# Altium schematic symbol library Sonar_Schlib1.SchLib: 14 symbols
Pins are listed as number, name and electrical type; pins without a type are passive.

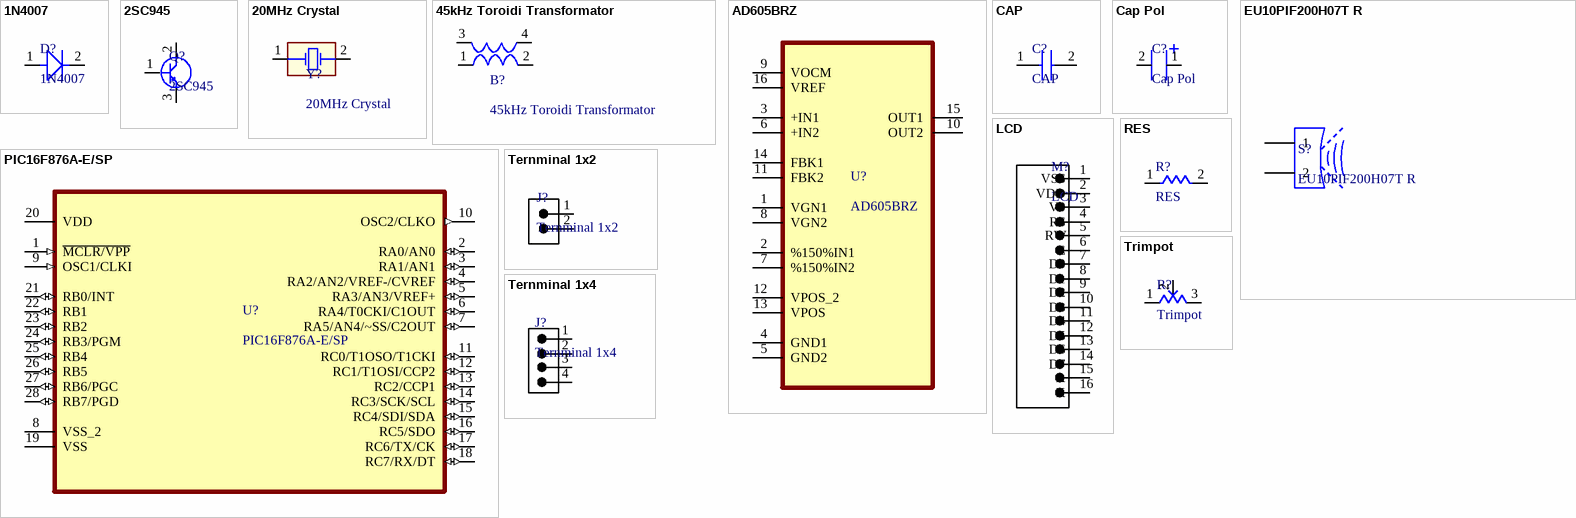
[diagram p0: symbols 1N4007 to Trimpot]

## 1N4007
designator D?
1N4007 Diyot - MIC; ComponentLink1Description: Satın Alma Linki; ComponentLink1URL: https://www.direnc.net/1n4007-diyot-mic?language=tr&h=be9c89b5; ComponentLink2Description: Datasheet; ComponentLink2URL: https://pdf.direnc.net/upload/1n4007-mic-datasheet.pdf
footprint Diode
pins: 1, 2

## 2SC945
designator Q?
2SC945 Npn Tht Transistör To-92; ComponentLink1Description: Satın Alma Linki; ComponentLink1URL: https://www.direnc.net/2sc945-npn-transistor-to-92; ComponentLink2Description: Datasheet; ComponentLink2URL: https://pdf.direnc.net/upload/2sc945-datasheet.pdf
footprint 2SC945
pins: 1 (power) "Regulator Input Supply. Bypass IN to GND with a 1 uF or greater capacitor.", 2 (power) "Ground.", 3 (power) "Ground."

## 20MHz Crystal
designator Y?
20.000 MHz Kristal HC-49S; ComponentLink1Description: Satın Alma Linki; ComponentLink1URL: https://www.direnc.net/20000mhz-kristal-hc-49s; ComponentLink2Description: Datasheet; ComponentLink2URL: https://pdf.direnc.net/upload/hc-49s-datasheet.pdf
footprint Crystal
pins: 1 (power) "Regulator Input Supply. Bypass IN to GND with a 1 uF or greater capacitor.", 2 (power) "Ground."

## 45kHz Toroidi Transformator
designator B?
Toroidi Transformator; ComponentLink1Description: Satın Alma Linki; ComponentLink2Description: Datasheet
footprint Toroidi Transformator
pins: 1 (power) "Regulator Input Supply. Bypass IN to GND with a 1 uF or greater capacitor.", 2 (power) "Ground.", 3 (power) "Regulator Input Supply. Bypass IN to GND with a 1 uF or greater capacitor.", 4 (power) "Regulator Input Supply. Bypass IN to GND with a 1 uF or greater capacitor."

## AD605BRZ
designator U?
SP Amp Variable Gain Amp Dual 5.5V 16-Pin SOIC N Tube; MF: Analog Devices; Check_prices: https://www.snapeda.com/parts/AD605BRZ/Analog+Devices+Inc./view-part/?ref=eda; Purchase-URL: https://pricing.snapeda.com/search/part/AD605BRZ/?ref=eda; Value: *; MP: AD605BRZ; SnapEDA_Link: https://www.snapeda.com/parts/AD605BRZ/Analog+Devices+Inc./view-part/?ref=snap; Availability: In Stock; Price: None; Package: SOIC-16 Analog Devices; ComponentLink1Description: Satın Alma Linki; ComponentLink1URL: https://karakoyelektronik.com/entegre-opamp/ad605arz-ad605-soic-16-smd-entegre-73227; ComponentLink2Description: Datasheet; ComponentLink2URL: https://www.analog.com/media/en/technical-documentation/data-sheets/ad605.pdf
footprint SOIC127P600X175-16N
pins: 1 VGN1, 2 %150%IN1, 3 +IN1, 4 GND1, 5 GND2, 6 +IN2, 7 %150%IN2, 8 VGN2, 9 VOCM, 10 OUT2, 11 FBK2, 12 VPOS_2 (power), 13 VPOS (power), 14 FBK1, 15 OUT1, 16 VREF

## CAP
designator C?
Capacitor; ComponentLink1Description: Satın Alma Linki; ComponentLink1URL: https://www.gittigidiyor.com/bilgisayar-tablet/10nf-0-01uf-250vac-15mm-polyester-kondansator_pdp_737477069?srsltid=AWLEVJz16SnKX2NDZaIIXPvCbCHJrqrlRK97N02d1jbI8tg-I79--aDE9LQ; ComponentLink2Description: Satın Alma Linki; ComponentLink2URL: https://www.gittigidiyor.com/bilgisayar-tablet/ero-0-1uf-100nf-104-63v-poly-kapasitor-1-adet-fiyatidir_pdp_567908829?srsltid=AWLEVJxjHrN956zYqkQJwJOlEd-L4Xspu9kCsmMCN64mFV4zCJysjyK6NUI; ComponentLink4Description: Satın Alma Linki; ComponentLink4URL: https://www.direnc.net/22-pf-63v-kondansator; ComponentLink5Description: Satın Alma Linki; ComponentLink5URL: https://www.direnc.net/100nf-63v-seramik
footprint CAP
pins: 1, 2

## Cap Pol
designator C?
MZ1V687M12020PH - CAP.EL.680uF 35V 12.5x20 5MM 105C TB SAMWHA; ComponentLink1Description: Satın Alma Linki; ComponentLink1URL: https://www.robotistan.com/50v-47-uf-kondansator?language=tr&h=1c00dcc6&gclid=CjwKCAjw8sCRBhA6EiwA6_IF4VXoQwnzNkJJ9WqRPn2NBUHTJmkaiTyihiBkaYJlX-EbQcFZ5TCuURoCGtoQAvD_BwE
footprint CAP POL
pins: 1, 2

## EU10PIF200H07T R
designator S?
Suya Dayanıklı Ultrasonik Sensör RT Mesafe Ölçüm Probu - 10mm (EU10PIF200H07T R 200Khz); ComponentLink1Description: Satın Alma Linki; ComponentLink1URL: https://www.robotistan.com/suya-dayanikli-ultrasonik-sensor-10mm?language=tr&h=b3c9ab81; ComponentLink2Description: Datasheet; ComponentLink2URL: https://tr.aliexpress.com/item/33039788263.html?spm=a2g0o.productlist.0.0.66bc1f47oNyabD&algo_pvid=28f77d51-3c5b-4650-aee5-95afa2ae2236&algo_exp_id=28f77d51-3c5b-4650-aee5-95afa2ae2236-42&pdp_ext_f=%7B%22sku_id%22%3A%2267411356863%22%7D&pdp_pi=-1%3B17.15%3B-1%3B-1%40salePrice%3BTRY%3Bsearch-mainSearch
footprint EU10PIF200H07T R
pins: 1, 2

## LCD
designator M?
2x16 LCD Ekran Sol Üst Mavi - Qapass; ComponentLink1Description: Satın Alma Linki; ComponentLink1URL: https://www.direnc.net/2x16-lcd-display-sol-ust-mavi-qapass
footprint LCD
pins: 1 VSS, 2 VDD, 3 V0, 4 RS, 5 RW, 6 E, 7 D0, 8 D1, 9 D2, 10 D3, 11 D4, 12 D5, 13 D6, 14 D7, 15 A, 16 K

## PIC16F876A-E/SP
designator U?
PIC PICÂ® 16F Microcontroller IC 8-Bit 20MHz 14KB _8K x 14_ FLASH 28-SPDIP; MF: Microchip; Price: None; SnapEDA_Link: https://www.snapeda.com/parts/PIC16F876A-E/SP/Microchip/view-part/39708/?ref=snap; MP: PIC16F876A-E/SP; Availability: Unavailable; Value: *; Package: SPDIP-28 Microchip
footprint DIP787W46P254L3467H508Q28
pins: 1 ~{MCLR/VPP} (in), 2 RA0/AN0 (io), 3 RA1/AN1 (io), 4 RA2/AN2/VREF-/CVREF (io), 5 RA3/AN3/VREF+ (io), 6 RA4/T0CKI/C1OUT (io), 7 RA5/AN4/~SS/C2OUT (io), 8 VSS_2 (power), 9 OSC1/CLKI (in), 10 OSC2/CLKO (out), 11 RC0/T1OSO/T1CKI (io), 12 RC1/T1OSI/CCP2 (io), 13 RC2/CCP1 (io), 14 RC3/SCK/SCL (io), 15 RC4/SDI/SDA (io), 16 RC5/SDO (io), 17 RC6/TX/CK (io), 18 RC7/RX/DT (io), 19 VSS (power), 20 VDD (power), 21 RB0/INT (io), 22 RB1 (io), 23 RB2 (io), 24 RB3/PGM (io), 25 RB4 (io), 26 RB5 (io), 27 RB6/PGC (io), 28 RB7/PGD (io)

## RES
designator R?
THT RES; ComponentLink1Description: Satın Alma Linki; ComponentLink1URL: https://www.direnc.net/100k-14w-direnc; ComponentLink2Description: Satın Alma Linki; ComponentLink2URL: https://www.direnc.net/10k-14w-direnc; ComponentLink3Description: Satın Alma Linki; ComponentLink3URL: https://www.direnc.net/330r-14w-direnc; ComponentLink4Description: Satın Alma Linki; ComponentLink4URL: https://www.robotistan.com/14w-4r7-direnc-paketi-10-adet?language=tr&h=271ea605&gclid=CjwKCAjw8sCRBhA6EiwA6_IF4UdnwIE7RSG51h9FyPU_nDREhgEzyNY-sIZCkwosdMCcC2JaoAPoUhoCuUsQAvD_BwE
footprint Res
pins: 1, 2

## Ternminal 1x2
designator J?
ComponentLink1Description: Satın Alma Linki; ComponentLink2Description: Datasheet
footprint Terminal 1x2
pins: 1, 2

## Ternminal 1x4
designator J?
ComponentLink1Description: Satın Alma Linki; ComponentLink2Description: Datasheet
footprint Terminal 1x4
pins: 1, 2, 3, 4

## Trimpot
designator R?
10K Trimpot (Yatık) - PT10; ComponentLink1Description: Satın Alma Linki; ComponentLink1URL: https://www.robotistan.com/10k-trimpot-yatik-pt10; ComponentLink2Description: Datasheet; ComponentLink2URL: https://www.robotistan.com/10k-trimpot-yatik-pt10
footprint Trimpot
pins: 1 (power) "Regulator Input Supply. Bypass IN to GND with a 1 uF or greater capacitor.", 2 (power) "Ground.", 3 (power) "Ground."